# EAGLE library part IR2110 (library Radicon)
IR2110(S)PbF/IR2113(S)PbF HIGH AND LOW SIDE DRIVER
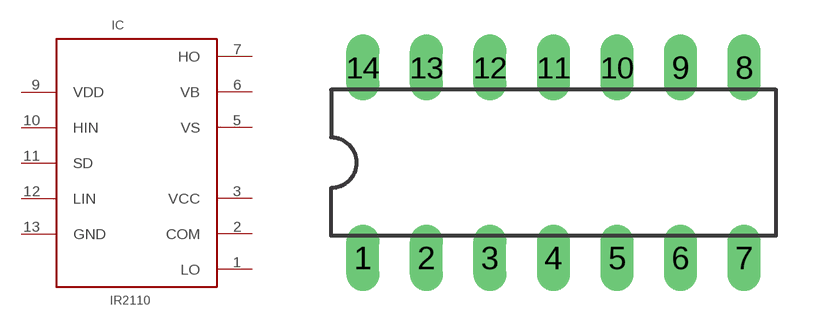
[diagram p15: symbol with the pads of DIL14; footprint DIL14]

Designator prefix IC

## IR2110  [DIL14]
1  LO
2  COM
3  VCC
5  VS
6  VB
7  HO
9  VDD
10  HIN
11  SD
12  LIN
13  GND

## Footprint DIL14 (pad centres in mm)
Dual In Line Package
drill 0.813 long: 1 -7.62,-3.81; 2 -5.08,-3.81; 3 -2.54,-3.81; 4 0,-3.81; 5 2.54,-3.81; 6 5.08,-3.81; 7 7.62,-3.81; 8 7.62,3.81; 9 5.08,3.81; 10 2.54,3.81; 11 0,3.81; 12 -2.54,3.81; 13 -5.08,3.81; 14 -7.62,3.81